# EAGLE library part MTOP-10 (library matt con-amp)
AMP connector
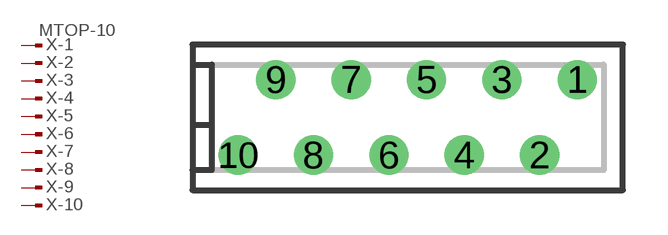
[diagram p100: symbol with the pads of MTOP-10; footprint MTOP-10]

Designator prefix X; gates -1=PIN-MV -2=PIN-M -3=PIN-M -4=PIN-M -5=PIN-M -6=PIN-M -7=PIN-M -8=PIN-M -9=PIN-M -10=PIN-M

## MTOP-10  [MTOP-10]
1  -1:1  pas
2  -2:1  pas
3  -3:1  pas
4  -4:1  pas
5  -5:1  pas
6  -6:1  pas
7  -7:1  pas
8  -8:1  pas
9  -9:1  pas
10  -10:1  pas

## Footprint MTOP-10 (pad centres in mm)
AMP connector
drill 0.813 round: 1 5.715,1.27; 2 4.445,-1.27; 3 3.175,1.27; 4 1.905,-1.27; 5 0.635,1.27; 6 -0.635,-1.27; 7 -1.905,1.27; 8 -3.175,-1.27; 9 -4.445,1.27; 10 -5.715,-1.27